# Altium footprint library MOLEX SD-73251-068.PCBLIB: 1 footprints
Each footprint in its own frame and in the unit in brackets; x right, y up, seen from the top. Pads: shape width x height; smd on the part's side, far side on the other; paste and mask are expansions set on the pad; w line width, h text height; cw(c..) or ccw(c..) is an arc to the next point about the centre after c.
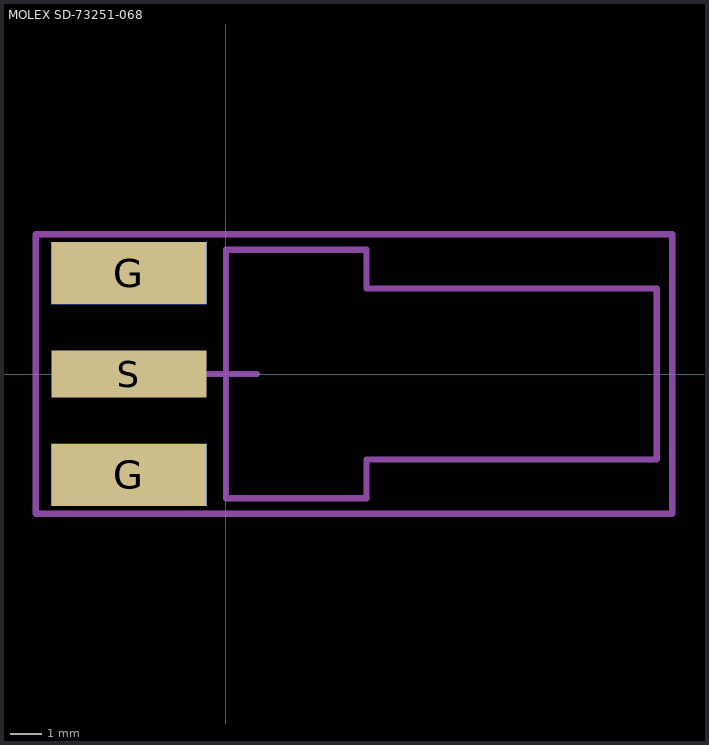
[diagram p0: the footprint, top view; thin cyan lines are the x and y axes]

## MOLEX SD-73251-068 [mm]
pads (5):
  rect 5x2 smd: G(-3.125,-3.25) G(-3.125,3.25)
  rect 5x2 smd far side: G(-3.125,-3.25) G(-3.125,3.25)
  rect 5x1.52 smd: S(-3.125,0)
Mechanical 1:
  lines w0.2: 0,-4 4.525,-4 4.525,-2.75 13.875,-2.75 13.875,2.75 4.525,2.75 4.525,4 0,4 0,-4
Mechanical 15:
  lines w0.2: -1,0 1,0 ; 0,-1 0,1 ; -6.125,-4.5 14.375,-4.5 14.375,4.5 -6.125,4.5 -6.125,-4.5
3D body "MOLEX SD-73251-068.stp": height 4.5, standoff -3.5, extent -5.455,-4 14.003,4